# Altium footprint library TI_LM337LZ.PcbLib: 1 footprints
Each footprint in its own frame and in the unit in brackets; x right, y up, seen from the top. Pads: shape width x height; smd on the part's side, far side on the other; paste and mask are expansions set on the pad; w line width, h text height; cw(c..) or ccw(c..) is an arc to the next point about the centre after c.
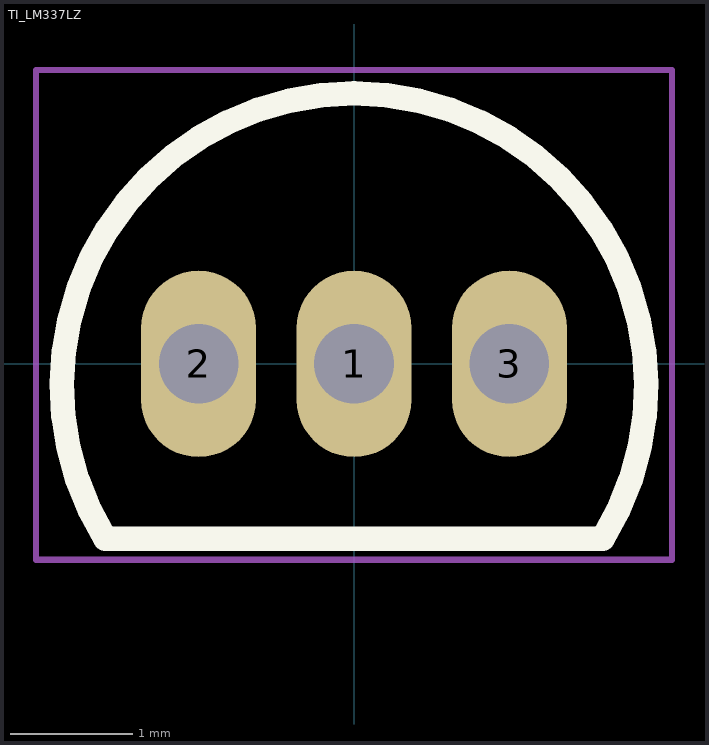
[diagram p0: the footprint, top view; thin cyan lines are the x and y axes]

## TI_LM337LZ [mil] "TI_LM337LZ"
height 310.24
pads (3):
  oval 37x60 hole 25.59 mask+1.97: 1(0,0) 2(-50,0) 3(50,0)
Top Overlay:
  lines w7.87: -80.06,-56.25 cw(c0,-6.99) 80.06,-56.25 ; -80,-56.21 80,-56.21
Mechanical 13:
  lines w3.94: -80.06,-56.25 cw(c0,-6.99) 80.06,-56.25 ; -80,-56.21 80,-56.21
Mechanical 15:
  lines w1.97: -102.36,-62.99 -102.36,94.49 102.36,94.49 102.36,-62.99 -102.36,-62.99
  lines w3.94: -15.75,0 15.75,0 ; 0,-15.75 0,15.75
3D body "TO-92 (Tall).step": height 268.7, standoff -500, extent -93.7,-56.21 93.7,86.7